# Altium footprint library 继电器.PcbLib: 8 footprints
Each footprint in its own frame and in the unit in brackets; x right, y up, seen from the top. Pads: shape width x height; smd on the part's side, far side on the other; paste and mask are expansions set on the pad; w line width, h text height; cw(c..) or ccw(c..) is an arc to the next point about the centre after c.
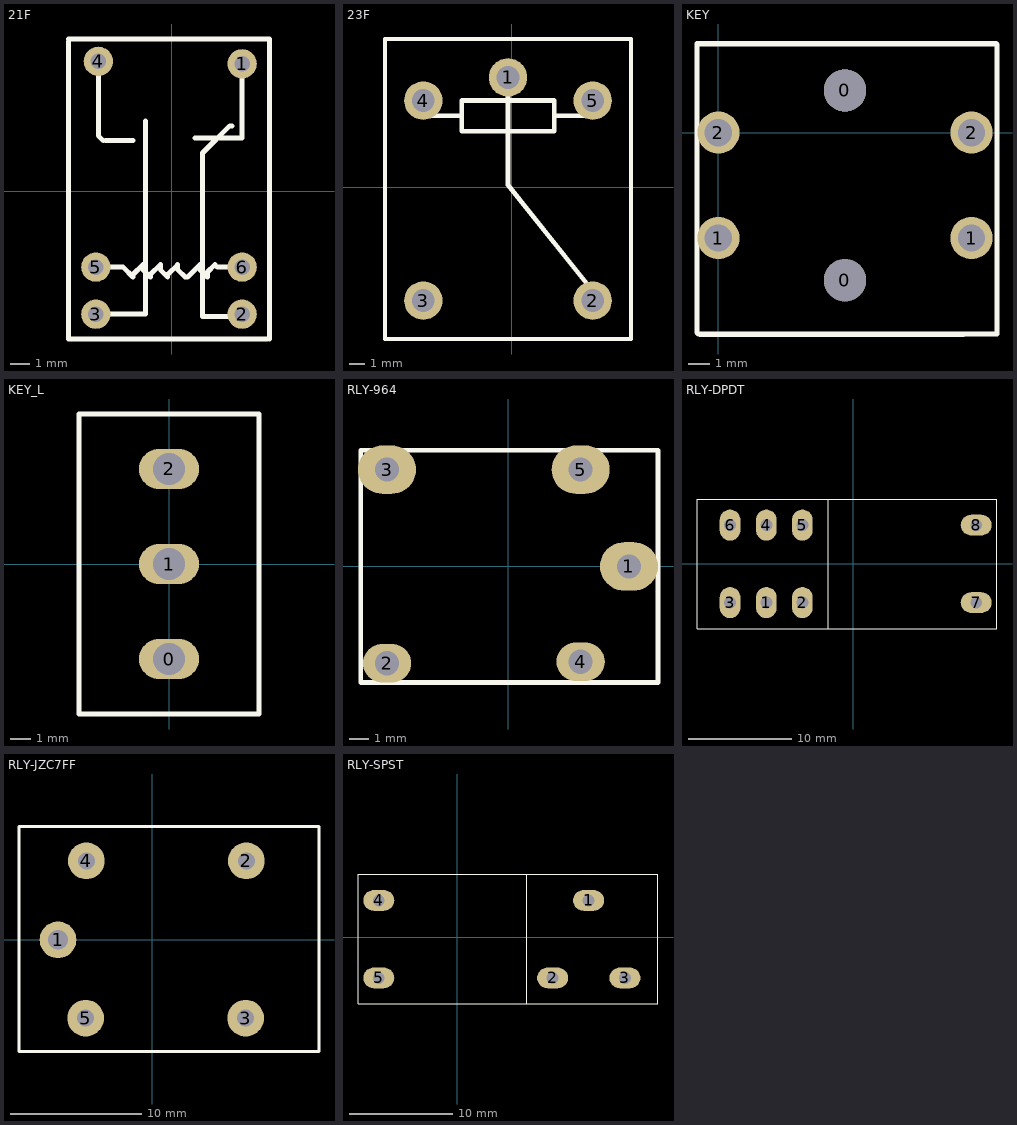
[diagram p0: the footprints below, top view; thin cyan lines are the x and y axes]

## 21F [mm]
pads (6):
  round 1.5 hole 0.8: 1(3.61,6.526) 2(3.61,-6.301) 3(-3.883,-6.301) 4(-3.756,6.653) 5(-3.883,-3.888) 6(3.61,-3.888)
Top Overlay:
  lines w0.254: -5.28,7.669 -5.28,-7.317 -5.28,-7.571 -5.026,-7.571 ; -5.28,7.796 5.007,7.796 5.007,-7.571 ; -5.153,-7.571 4.88,-7.571 ; -3.883,-6.301 -1.343,-6.301 -1.343,3.605 ; -3.883,-3.888 -2.486,-3.888 -1.978,-4.396 -1.978,-4.269 -1.47,-3.761 -1.47,-4.015 -1.089,-4.396 -1.089,-4.269 -0.581,-3.761 -0.581,-4.015 -0.2,-4.396 -0.2,-4.269 0.308,-3.761 0.308,-4.015 0.689,-4.396 0.816,-4.396 1.451,-3.761 1.451,-4.015 1.832,-4.396 1.832,-4.142 2.213,-3.761 2.34,-3.888 3.356,-3.888 ; -3.756,6.653 -3.756,2.843 -3.502,2.589 ; -3.375,2.589 -1.978,2.589 ; 1.197,2.716 3.61,2.716 3.61,6.526 ; 3.102,3.351 2.975,3.351 1.578,1.954 1.578,1.192 1.578,-6.428 3.737,-6.428

## 23F [mil]
pads (5):
  round 100 hole 59.06: 1(-10,285) 2(210,-295) 3(-230,-295) 4(-230,225) 5(210,225)
Top Overlay:
  lines w10: -330,-395 310,-395 310,385 -330,385 -330,-395
  lines w12: -250,185 -130,185 ; -230,185 -230,225 ; -10,285 -10,5 230,-295 ; 110,185 230,185 ; 210,185 210,225 ; -130,145 110,145 110,225 -130,225 -130,145

## KEY [mm]
pads (6):
  round 2 hole 2: 0(6,-7) 0(6,2)
  round 2 hole 1.3: 1(0,-5) 1(12,-5) 2(0,0) 2(12,0)
Top Overlay:
  lines w0.254: -0.94,-9.55 -1.016,-9.474 -1.016,4.216 12.7,4.216 13.157,4.216 13.208,4.166 13.208,-9.55 11.176,-9.55 ; -0.876,-9.567 11.621,-9.567

## KEY_L [mm]
pads (3):
  oval 3x2 hole 1.6: 0(0,-4.75) 1(0,0) 2(0,4.75)
Top Overlay:
  lines w0.254: -4.5,-7.5 -4.5,0 -4.5,7.5 4.5,7.5 4.5,-7.5 -4.5,-7.5

## RLY-964 [mil]
pads (5):
  oval 120x100 hole 50: 1(250,0) 3(-250,200) 5(150,200)
  oval 100x80 hole 50: 2(-250,-200) 4(150,-196.85)
Top Overlay:
  lines w10: -304.17,-240 -304.17,240 310,240 310,0 310,-240 -304.17,-240

## RLY-DPDT [mil]
pads (8):
  oval 79x118 hole 45: 1(-330.5,-147.5) 2(-193.5,-147.5) 3(-468.5,-147.5) 4(-330.5,147.5) 5(-193.5,147.5) 6(-468.5,147.5)
  oval 118x79 hole 45: 7(468.5,-147.5) 8(468.5,147.5)
Top Overlay:
  lines w4: -94.5,-246.5 -94.5,245.5 ; -594.5,-246.5 -594.5,245.5 547.5,245.5 547.5,-246.5 -594.5,-246.5

## RLY-JZC7FF [mm]
pads (5):
  round 2.8 hole 1.5: 1(-7.175,-0.025)
  round 2.8 hole 1.3: 2(7.175,5.994) 3(7.125,-5.994) 4(-5.016,5.994) 5(-5.067,-5.994)
Top Overlay:
  lines w0.254: -10.147,-8.534 12.713,-8.534 12.713,8.611 -10.147,8.611 -10.147,-8.534

## RLY-SPST [mil]
pads (5):
  oval 118x79 hole 45: 1(500,140) 2(363,-155) 3(638,-155) 4(-299,140) 5(-299,-155)
Top Overlay:
  lines w4: 264,-253 264,239 ; -378,-253 -378,239 764,239 764,-253 -378,-253